# EAGLE library part MIC29302AWU-TR (library SamacSys_Parts)
LDO Regulator Pos 1.24V to 15V 3A 6-Pin(5+Tab) TO-263 T/R Source: Datasheet <https://ww1.microchip.com/downloads/en/DeviceDoc/20005897B.pdf>
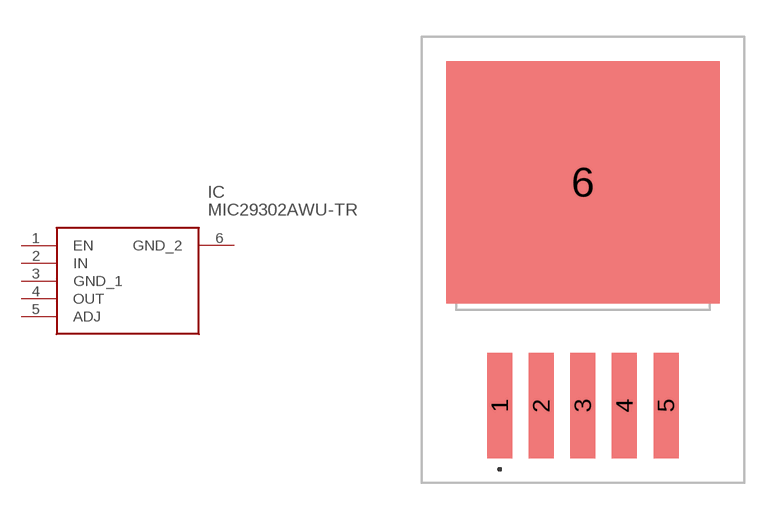
[diagram p0: symbol with the pads of MIC29302AWUTR; footprint MIC29302AWUTR]

Designator prefix IC

## MIC29302AWU-TR (Description: LDO Regulator Pos 1.24V to 15V 3A 6-Pin(5+Tab) TO-263 T/R; Height: 4.902mm; Manufacturer_Name: Microchip; Manufacturer_Part_Number: MIC29302AWU-TR; Mouser_Part_Number: 998-MIC29302AWUTR; Mouser_Price-Stock: https://www.mouser.co.uk/ProductDetail/Microchip-Technology-Micrel/MIC29302AWU-TR?qs=U6T8BxXiZAVSCuHyjlBwaw%3D%3D)  [MIC29302AWUTR]
1  EN
2  IN
3  GND_1
4  OUT
5  ADJ
6  GND_2

## Footprint MIC29302AWUTR (pad centres in mm)
5-Lead D2PAK (TO-263)
smd 1.02 x 4.32: 1 -3.4,-6.345; 2 -1.7,-6.345; 3 0,-6.345; 4 1.7,-6.345; 5 3.4,-6.345
smd 11.18 x 9.91: 6 0,2.8